# EAGLE library part LTC4059 (library casovac)
LTC4059 - 900mA Linear Li-Ion Battery Chargers with Thermal Regulation in 2 x 2 DFN
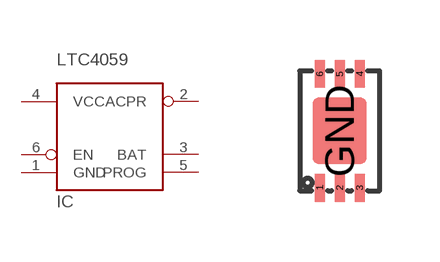
[diagram p3: symbol with the pads of DFN6; footprint DFN6]

Designator prefix IC

## LTC4059  [DFN6]
1  GND
2  ACPR
3  BAT
4  VCC
5  PROG
6  EN

## Footprint DFN6 (pad centres in mm)
smd 0.25 x 0.7: 1 -0.5,-1.425; 2 0,-1.425; 3 0.5,-1.425; 4 0.5,1.425; 5 0,1.425; 6 -0.5,1.425
smd 1.35 x 1.65: GND 0,0